# Altium schematic symbol library Schlib1.SchLib: 1 symbol
Pins are listed as number, name and electrical type; pins without a type are passive.

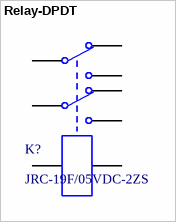
[diagram p0: symbol Relay-DPDT]

## Relay-DPDT
designator K?, comment JRC-19F/05VDC-2ZS
footprint Relay-DPDT
pins: 1, 2, 3, 4, 5, 6, 7, 8